# Altium footprint library TSSOP-20.PcbLib: 1 footprints
Each footprint in its own frame and in the unit in brackets; x right, y up, seen from the top. Pads: shape width x height; smd on the part's side, far side on the other; paste and mask are expansions set on the pad; w line width, h text height; cw(c..) or ccw(c..) is an arc to the next point about the centre after c.
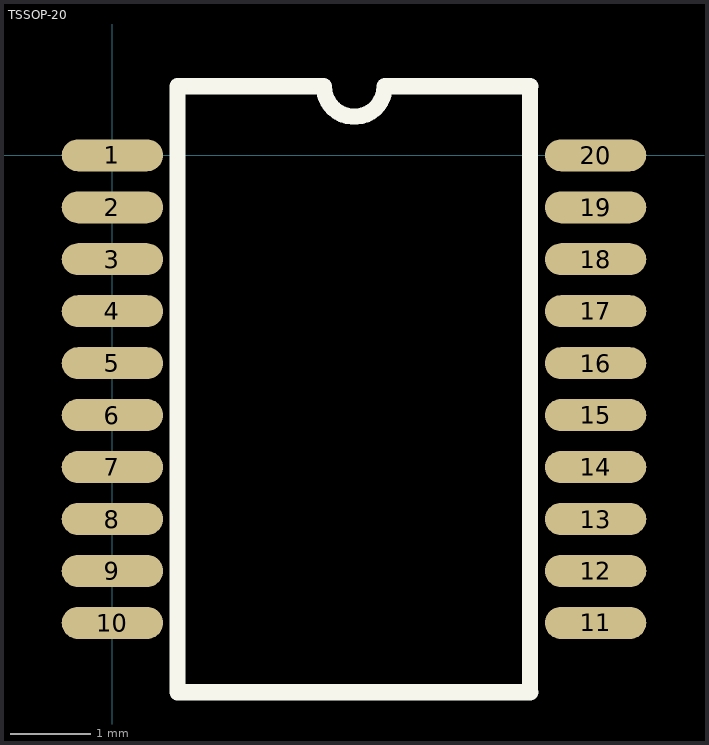
[diagram p0: the footprint, top view; thin cyan lines are the x and y axes]

## TSSOP-20 [mm]
height 3.048
pads (20):
  oval 1.27x0.4 smd: 1(0,0) 2(0,-0.65) 3(0,-1.3) 4(0,-1.95) 5(0,-2.6) 6(0,-3.25) 7(0,-3.9) 8(0,-4.55) 9(0,-5.2) 10(0,-5.85) 11(6.044,-5.85) 12(6.044,-5.2) 13(6.044,-4.55) 14(6.044,-3.9) 15(6.044,-3.25) 16(6.044,-2.6) 17(6.044,-1.95) 18(6.044,-1.3) 19(6.044,-0.65) 20(6.044,0)
TopOverlay:
  lines w0.203: 0.813,-6.716 0.813,0.864 ; 0.815,-6.716 5.226,-6.716 ; 0.815,0.864 2.645,0.864 ccw(c3.026,0.864) 3.407,0.864 5.226,0.864 ; 5.223,-6.716 5.223,0.864
3D body: height 1.2, standoff 0, extent -0.252,-6.219 6.298,0.381